# Altium schematic symbol library U.FL-R-SMT-1_10_.SchLib: 1 symbol
Pins are listed as number, name and electrical type; pins without a type are passive.

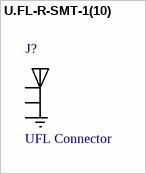
[diagram p0: symbol U.FL-R-SMT-1(10)]

## U.FL-R-SMT-1(10)
designator J?, comment UFL Connector
U.FL Series 6 Ghz 50 Ohm Ultra-small SMT Coaxial Cable Receptacle; Manufacturer Part Number: U.FL-R-SMT-1(10); Manufacturer: Hirose Connector; Mouser Part Number: 798-U.FL-R-SMT-110; MouserURL: https://www.mouser.com/ProductDetail/Hirose-Connector/UFL-R-SMT-110?qs=kL1ClTr6oBoOdtqlGQpQrQ%3D%3D
footprint *HRS_U.FL-R-SMT-1(10)
pins: 1 GND, 2 SIG, 3 GND